# EAGLE library part D-FF7 (library digital)
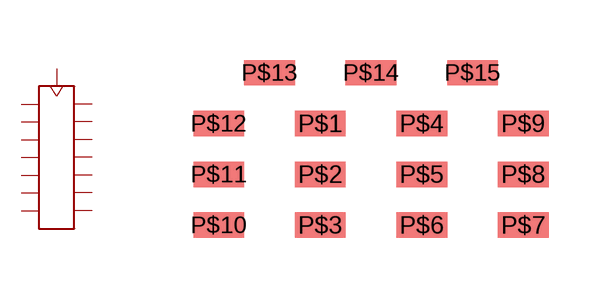
[diagram p4: symbol with the pads of 15PIN; footprint 15PIN]

Designator prefix -

## D-FF7  [15PIN]
P$1  CLK
P$2  D1
P$3  D2
P$4  D3
P$5  D4
P$6  D5
P$7  D6
P$8  D7
P$9  Q1
P$10  Q2
P$11  Q3
P$12  Q4
P$13  Q5
P$14  Q6
P$15  Q7

## Footprint 15PIN (pad centres in mm)
smd 1.27 x 0.635: P$1 -1.27,1.27; P$2 -1.27,0; P$3 -1.27,-1.27; P$4 1.27,1.27; P$5 1.27,0; P$6 1.27,-1.27; P$7 3.81,-1.27; P$8 3.81,0; P$9 3.81,1.27; P$10 -3.81,-1.27; P$11 -3.81,0; P$12 -3.81,1.27; P$13 -2.54,2.54; P$14 0,2.54; P$15 2.54,2.54